# Altium footprint library 8-SOIC.PcbLib: 1 footprints
Each footprint in its own frame and in the unit in brackets; x right, y up, seen from the top. Pads: shape width x height; smd on the part's side, far side on the other; paste and mask are expansions set on the pad; w line width, h text height; cw(c..) or ccw(c..) is an arc to the next point about the centre after c.
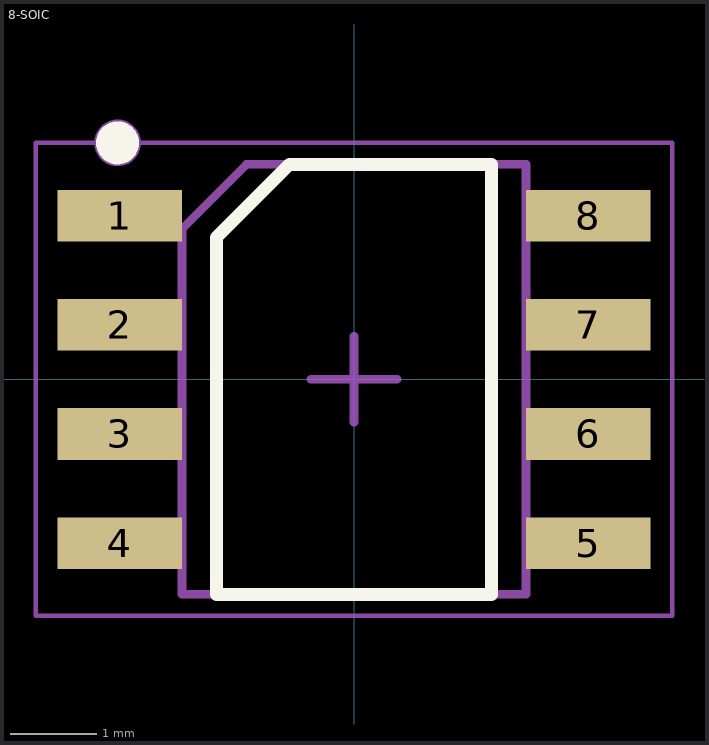
[diagram p0: the footprint, top view; thin cyan lines are the x and y axes]

## 8-SOIC [mm]
height 1.75
pads (8):
  rect 1.45x0.6 smd: 1(-2.725,1.905) 2(-2.725,0.635) 3(-2.725,-0.635) 4(-2.725,-1.905) 5(2.725,-1.905) 6(2.725,-0.635) 7(2.725,0.635) 8(2.725,1.905)
Top Overlay:
  circle w0.25: c-2.75,2.75 r0.125
  lines w0.152: -1.6,-2.5 -1.6,1.65 -0.75,2.5 1.6,2.5 1.6,-2.5 -1.6,-2.5
Mechanical 1:
  circle w0.4: c-2.75,2.75 r0.071
  lines w0.1: -2,-2.5 -2,1.75 -1.25,2.5 2,2.5 2,-2.5 -2,-2.5
  text ".Designator" at -3.294,-0.269 h0.65
Mechanical 2:
  lines w0.05: -3.7,-2.75 -3.7,2.75 3.7,2.75 3.7,-2.75 -3.7,-2.75
  lines w0.1: -0.5,0 0.5,0 ; 0,-0.5 0,0.5
3D body "8-SOIC.step": height 1.75, standoff 0, extent -2.997,-2.5 2.997,2.5